# Altium schematic symbol library Элементы.SchLib: 4 symbols
Pins are listed as number, name and electrical type; pins without a type are passive.

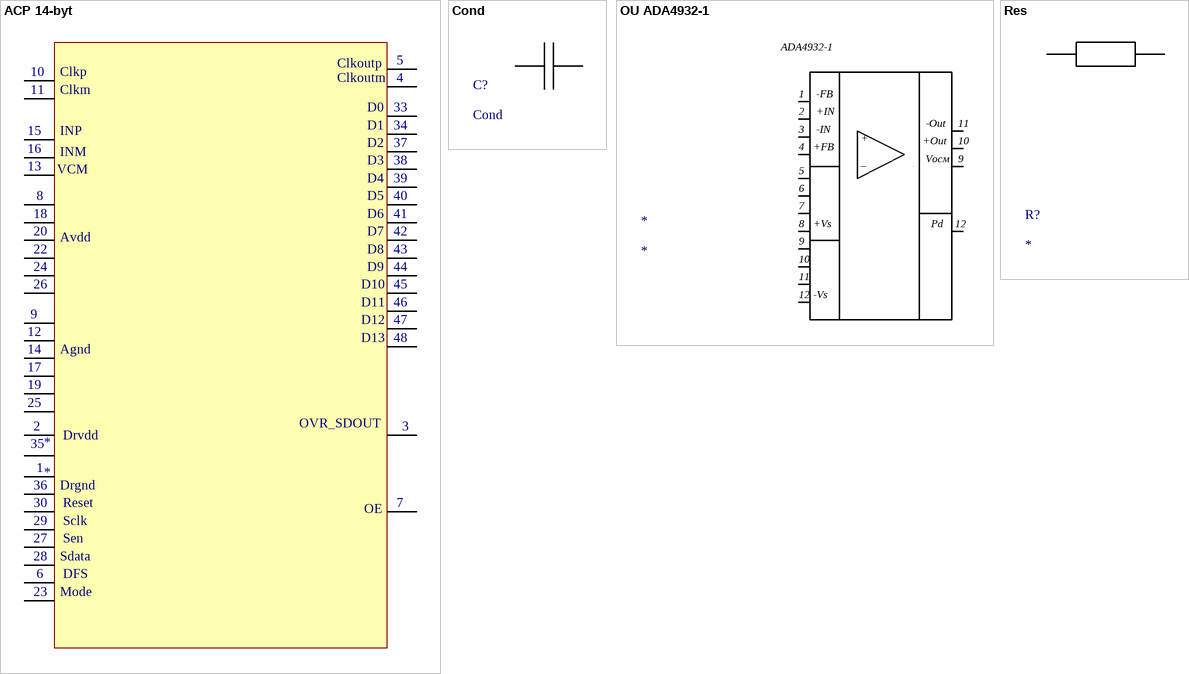
[diagram p0: symbols ACP 14-byt to Res]

## ACP 14-byt
designator *
pins: 1, 2, 3, 4, 5, 6, 7, 8, 9, 10, 11, 11 48, 12, 13, 14, 15, 16, 17, 18, 19, 20, 22, 23, 24, 25, 26, 27, 28, 29, 30, 33, 34, 35, 36, 37, 38, 39, 40, 41, 42, 43, 44, 45, 46, 47
text: Clkoutp; Clkp; Clkoutm; Clkm; D0; INP; D1; D2; INM; D3; VCM; D4; D5; D6; D7; Avdd; D8; D9; D10; D11; D12; D13; Agnd; OVR_SDOUT; Drvdd; Drgnd; Reset; OE; Sclk; Sen; Sdata; DFS; Mode

## Cond
designator C?
pins: 2, 3

## OU ADA4932-1
designator *
pins: 12, 30, 31, 32, 32, 33, 34, 35, 36, 37, 38, 39, 40, 41, 42, 43, 44
text: ADA4932-1; 1; -FB; 2; +IN; -Out; 11; 3; -IN; +; +Out; 10; 4; +FB; _; Vосм; 9; 5; 6; 7; 8; +Vs; Pd; -Vs

## Res
designator R?
pins: 4, 5